# EAGLE library part SSHS-123-D-02-GT-LF (library SSHS-123-D-02-GT-LF Beagle)
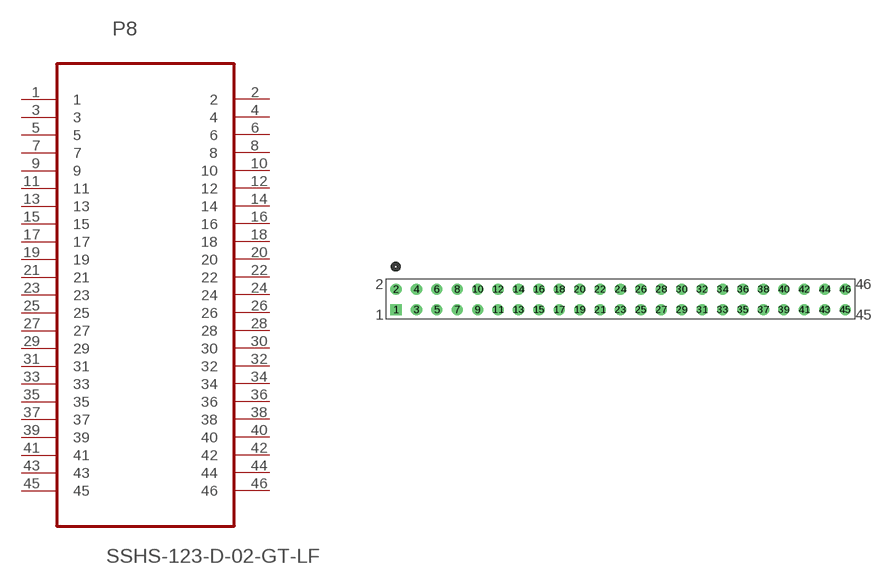
[diagram p0: symbol with the pads of SSHS-123-D-02-GT-LF; footprint SSHS-123-D-02-GT-LF]

Designator prefix -

## SSHS-123-D-02-GT-LF  [SSHS-123-D-02-GT-LF]
1  1  pas
2  2  pas
3  3  pas
4  4  pas
5  5  pas
6  6  pas
7  7  pas
8  8  pas
9  9  pas
10  10  pas
11  11  pas
12  12  pas
13  13  pas
14  14  pas
15  15  pas
16  16  pas
17  17  pas
18  18  pas
19  19  pas
20  20  pas
21  21  pas
22  22  pas
23  23  pas
24  24  pas
25  25  pas
26  26  pas
27  27  pas
28  28  pas
29  29  pas
30  30  pas
31  31  pas
32  32  pas
33  33  pas
34  34  pas
35  35  pas
36  36  pas
37  37  pas
38  38  pas
39  39  pas
40  40  pas
41  41  pas
42  42  pas
43  43  pas
44  44  pas
45  45  pas
46  46  pas

## Footprint SSHS-123-D-02-GT-LF (pad centres in mm)
drill 0.889 square: 1 -26.67,5.08
drill 0.889: 2 -26.67,7.62; 3 -24.13,5.08; 4 -24.13,7.62; 5 -21.59,5.08; 6 -21.59,7.62; 7 -19.05,5.08; 8 -19.05,7.62; 9 -16.51,5.08; 10 -16.51,7.62; 11 -13.97,5.08; 12 -13.97,7.62; 13 -11.43,5.08; 14 -11.43,7.62; 15 -8.89,5.08; 16 -8.89,7.62; 17 -6.35,5.08; 18 -6.35,7.62; 19 -3.81,5.08; 20 -3.81,7.62; 21 -1.27,5.08; 22 -1.27,7.62; 23 1.27,5.08; 24 1.27,7.62; 25 3.81,5.08; 26 3.81,7.62; 27 6.35,5.08; 28 6.35,7.62; 29 8.89,5.08; 30 8.89,7.62; 31 11.43,5.08; 32 11.43,7.62; 33 13.97,5.08; 34 13.97,7.62; 35 16.51,5.08; 36 16.51,7.62; 37 19.05,5.08; 38 19.05,7.62; 39 21.59,5.08; 40 21.59,7.62; 41 24.13,5.08; 42 24.13,7.62; 43 26.67,5.08; 44 26.67,7.62; 45 29.21,5.08; 46 29.21,7.62